# Altium integrated library MDAP.IntLib: 18 symbols
Pins are listed as number, name and electrical type; pins without a type are passive.

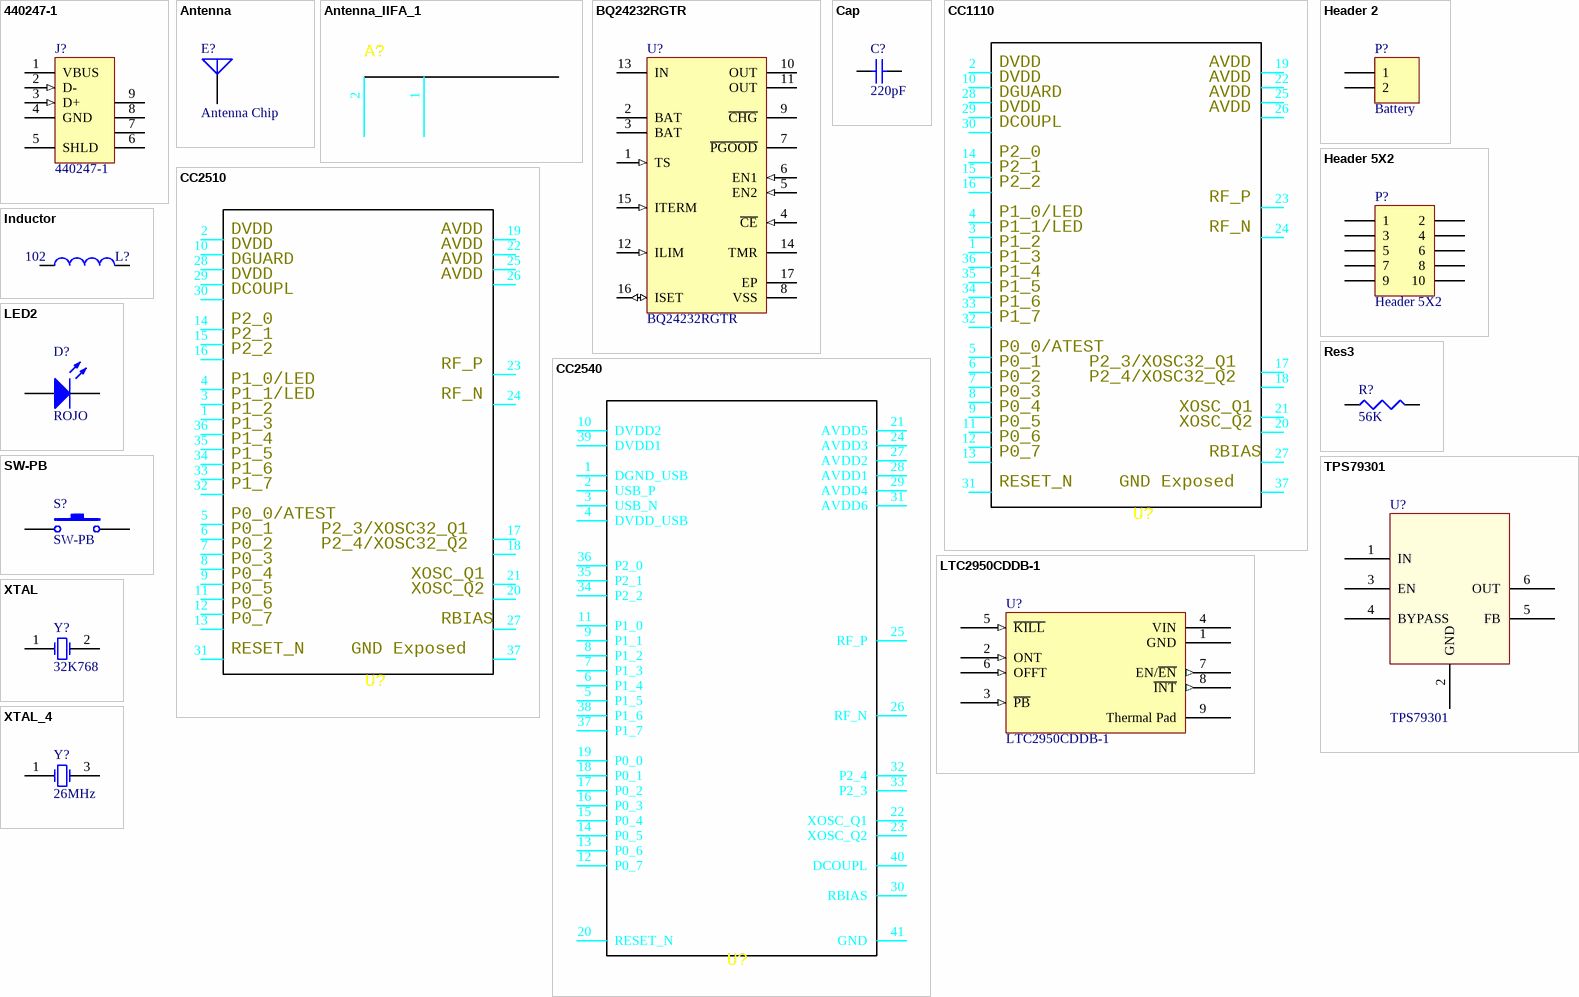
[diagram p0: symbols 440247-1 to XTAL_4]

## 440247-1
designator J?
USB 2.0, Right Angle, SMT, B Type, Receptacle, 5 Position, Black; Manufacturer: Smart Prototyping; SP: SP-C10418; Published: 15-Jul-2004; PackageReference: 440247; Publisher: Altium Limited; Order N: SP-C10418
signal-integrity model USB2.0
footprint USB_C10418 (Micro USB 5C, TYPE B)
pins: 1 VBUS (power) "Power", 2 D- (in) "-DATA", 3 D+ (in) "+DATA", 4 GND (power) "Ground", 5 SHLD "Shield", 6 SHLD "Shield", 7 SHLD "Shield", 8 SHLD "Shield", 9 SHLD "Shield"

## Antenna
designator E?, comment Antenna Chip
Generic Antenna; Manufacturer: FARNELL; RS: N.E.; PN: 0868AT43A0020E; Order N: 1885493; Published: 24-Mar-1999; LatestRevisionDate: 17-Jul-2002; LatestRevisionNote: Re-released for DXP Platform.; PackageReference: PIN1; Publisher: Altium Limited; FARNELL: 1885493
footprint PIN1 (Generic Antenna; 1 Lead)
footprint Johanson_0868AT43A0020
pins: 1 A

## Antenna_IIFA_1
designator A?  (value not drawn)
Antenna single ended IIFA, 2450 MHz
footprint antenna_IIFA_1
footprint antenna_IIFA_1
pins: 1, 2

## BQ24232RGTR
designator U?
USB Friendly 0.5 A Li+ Charger with Dynamic Power Management, 10.5 V OVP, 4.3 V, -40 to 85 degC, 16-pin QFN (RGT), Green (RoHS & no Sb/Br); Manufacturer: FARNELL; RS: N.E.; PN: BQ24232RGTT; Order N: 2383064; PackageReference: RGT16-1700X1700TP; PackageDescription: 16-Pin Plastic Quad Flat No-Lead, 3 x 3 mm Body, 0.5 mm Pitch, 1.7 x 1.7 mm Exposed Pad; FARNELL: 2383064
footprint RGT16-1700X1700TP (QFN, 16-Leads, Body 3x3mm, Pitch 0.5mm, Thermal Pad 1.7x1.7mm, TI Recommended)
footprint RGT16-1700X1700TP_SP (QFN, 16-Leads, Body 3x3mm, Pitch 0.5mm, Thermal Pad 1.7x1.7mm, TI Recommended)
pins: 1 TS (in) "External NTC Thermistor Input. Connect the TS input to the NTC thermistor in the battery pack. TS monitors a 10-k ohm NTC thermistor. For applications that do not utilize the TS function, connect a 10-k ohm fixed resistor (See Datasheet)", 2 BAT (power) "Charger Power Stage Output and Battery Voltage Sense Input. Connect BAT to the positive terminal of the battery. Bypass BAT to VSS with a 4.7-uF to 47-uF ceramic capacitor.", 3 BAT (power) "Charger Power Stage Output and Battery Voltage Sense Input. Connect BAT to the positive terminal of the battery. Bypass BAT to VSS with a 4.7-uF to 47-uF ceramic capacitor.", 4 ~{CE} (in) "Charge Enable Active-Low Input. Connect C\E\ to a high logic level to place the battery charger in standby mode. In standby mode, OUT is active and battery supplement mode is still available. Connect C\E\ to a low logic (See Datasheet)", 5 EN2 (in) "Input Current Limit Configuration Inputs. Use EN2 control the maximum input current and enable USB compliance. See Table 2 for the description of the operation states. EN2 is internally pulled down with ~285 k ohm. Do not (See Datasheet)", 6 EN1 (in) "Input Current Limit Configuration Inputs. Use EN1 control the maximum input current and enable USB compliance. See Table 2 for the description of the operation states. EN1  is internally pulled down with ~285 k ohm. Do not (See Datasheet)", 7 ~{PGOOD} (hiz) "Open-drain Power Good Status Indication Output. P\G\O\O\D\ pulls to VSS when a valid input source is detected. P\G\O\O\D\ is high-impedance when the input power is not within specified limits. Connect P\G\O\O\D\ to the (See Datasheet)", 8 VSS (power) "Ground. Connect to the thermal pad and to the ground rail of the circuit.", 9 ~{CHG} (hiz) "Open-Drain Charging Status Indication Output. C\H\G\ pulls to VSS when the battery is charging. C\H\G\ is high impedance when charging is complete and when charger is disabled.", 10 OUT (power) "System Supply Output. OUT provides a regulated output when the input is below the OVP threshold and above the regulation voltage. When the input is out of the operation range, OUT is connected to VBAT. Connect OUT to the (See Datasheet)", 11 OUT (power) "System Supply Output. OUT provides a regulated output when the input is below the OVP threshold and above the regulation voltage. When the input is out of the operation range, OUT is connected to VBAT. Connect OUT to the (See Datasheet)", 12 ILIM (in) "Adjustable Current Limit Programming Input. Connect a 3.1-k ohm to 7.8-k ohm resistor from ILIM to VSS to program the maximum input current (EN2=1, EN1=0). The input current includes the system load and the battery charge (See Datasheet)", 13 IN (power) "Input Power Connection. Connect IN to the connected to external DC supply (AC adapter or USB port). The input operating range is 4.35 V to 6.6 V. The input can accept voltages up to 26 V without damage but operation is (See Datasheet)", 14 TMR "Timer Programming Input. TMR controls the precharge and fast-charge safety timers. Connect TMR to VSS to disable all safety timers. Connect a 18-k ohm to 72-k ohm resistor between TMR and VSS to program the timers a desired (See Datasheet)", 15 ITERM (in) "Termination Current Programming Input. Connect a 0-ohm to 15-k ohm resistor from ITERM to VSS to program the termination current. Leave ITERM unconnected to set the termination current to the internal default 10% threshold.", 16 ISET (io) "Fast-Charge Current Programming Input. Connect a 3-k ohm to 36-k ohm resistor from ISET to VSS to program the fast-charge current level. Charging is disabled if ISET is left unconnected. While charging, the voltage at ISET (See Datasheet)", 17 EP (power) "An internal electrical connection exists between the exposed thermal pad and the VSS pin of the device. The thermal pad must be connected to the same potential as the VSS pin on the printed-circuit board. Do not use the (See Datasheet)"

## Cap
designator C?  value 220pF  (hidden comment: Cap)
Capacitor; Manufacturer: FARNELL; RS: 624-2941; Order N: 2426879; Published: 8-Jun-2000; LatestRevisionDate: 17-Jul-2002; LatestRevisionNote: Re-released for DXP Platform.; PackageReference: RAD-0.3; Publisher: Altium Limited; PackageDescription: Radial Cap, Thru-Hole; 2 Leads; 0.3 in Pin Spacing; FARNELL: 2426879
simulation model CAP (Capacitor)
signal-integrity model Cap
footprint 0402 (Chip Capacitor; Body 1.0 x 0.5 mm (LxW typ))
footprint 0402 (REFLOW)
pins: 1, 2

## CC1110
designator U?  (value not drawn)
Single chip transceiver; Manufacturer: FARNELL; RS: 459-342; PN: CC1110F32RHHR; Order N: 2422916; FARNELL: 2422916
footprint QLP36_4_4 (Reflow)
footprint QLP36_4_4 (Reflow)
pins: 1, 2, 3, 4, 5, 6, 7, 8, 9, 10, 11, 12, 13, 14, 15, 16, 17, 18, 19, 20, 21, 22, 23, 24, 25, 26, 27, 28, 29, 30, 31, 32, 33, 34, 35, 36, 37
text: DVDD; AVDD; DGUARD; DCOUPL; P2_0; P2_1; P2_2; RF_P; P1_0/LED; P1_1/LED; RF_N; P1_2; P1_3; P1_4; P1_5; P1_6; P1_7; P0_0/ATEST; P0_1; P2_3/XOSC32_Q1; P0_2; P2_4/XOSC32_Q2; P0_3; P0_4; XOSC_Q1; P0_5; XOSC_Q2; P0_6; P0_7; RBIAS; RESET_N; GND Exposed

## CC2510
designator U?  (value not drawn)
Single chip transceiver; Manufacturer: FARNELL; RS: 459-540; PN: CC2510F16RSP; Order N: 1549254; FARNELL: 1549254
footprint QLP36_4_4 norteam silk (Reflow)
footprint QLP36_4_4 norteam silk (Reflow)
pins: 1, 2, 3, 4, 5, 6, 7, 8, 9, 10, 11, 12, 13, 14, 15, 16, 17, 18, 19, 20, 21, 22, 23, 24, 25, 26, 27, 28, 29, 30, 31, 32, 33, 34, 35, 36, 37
text: DVDD; AVDD; DGUARD; DCOUPL; P2_0; P2_1; P2_2; RF_P; P1_0/LED; P1_1/LED; RF_N; P1_2; P1_3; P1_4; P1_5; P1_6; P1_7; P0_0/ATEST; P0_1; P2_3/XOSC32_Q1; P0_2; P2_4/XOSC32_Q2; P0_3; P0_4; XOSC_Q1; P0_5; XOSC_Q2; P0_6; P0_7; RBIAS; RESET_N; GND Exposed

## CC2540
designator U?  (value not drawn)
Single chip BLE; Manufacturer: FARNELL; RS: 730-0534; PN: CC2540F256RHAT; Order N: 1862837RL; FARNELL: 1862837RL
footprint QFN40_RHA (DATASHEET)
footprint QFN40_RHA (DATASHEET)
pins: 1 DGND_USB, 2 USB_P, 3 USB_N, 4 DVDD_USB, 5 P1_5, 6 P1_4, 7 P1_3, 8 P1_2, 9 P1_1, 10 DVDD2, 11 P1_0, 12 P0_7, 13 P0_6, 14 P0_5, 15 P0_4, 16 P0_3, 17 P0_2, 18 P0_1, 19 P0_0, 20 RESET_N, 21 AVDD5, 22 XOSC_Q1, 23 XOSC_Q2, 24 AVDD3, 25 RF_P, 26 RF_N, 27 AVDD2, 28 AVDD1, 29 AVDD4, 30 RBIAS, 31 AVDD6, 32 P2_4, 33 P2_3, 34 P2_2, 35 P2_1, 36 P2_0, 37 P1_7, 38 P1_6, 39 DVDD1, 40 DCOUPL, 41 GND

## Header 2
designator P?, comment Battery
Header, 2-Pin; Manufacturer: FARNELL; Order N: 9979611; LatestRevisionDate: 17-Jul-2002; LatestRevisionNote: Re-released for DXP Platform.; Publisher: Altium Limited; FARNELL: 9979611
footprint HDR1X2 (Connector; Header; 2 Position)
signal-integrity model Connector
footprint MHDR1X2 (Connector; Header; 2 Position)
footprint MOLEX_5267-2 (Conector Molex serie 5267 2 pin, paso 2.54mm)
footprint MOLEX_5268-2 (Conector Molex serie 5267 2 pin, paso 2.54mm acodado)
pins: 1, 2

## Header 5X2
designator P?
Header, 5-Pin, Dual row; Manufacturer: Smart Prototyping; SP: SP-C12650; LatestRevisionDate: 17-Jul-2002; LatestRevisionNote: Re-released for DXP Platform.; Publisher: Altium Limited; Order N: SP-C12650
footprint HDR2X5 (Connector; Header; 5x2 Position)
signal-integrity model Connector
footprint stl21
pins: 1, 2, 3, 4, 5, 6, 7, 8, 9, 10

## Inductor
designator L?  value 102  (hidden comment: Inductor)
Manufacturer: FARNELL; Code_IEC: 1005; RS: 777-6861; Order N: 1669624; Published: 8-Jun-2000; LatestRevisionDate: 29-May-2009; LatestRevisionNote: IPC-7351 Footprint Added.; PackageReference: 0402-A; Publisher: Altium Limited; PackageDescription: Chip Inductor; Code_JEITA: 0402; FARNELL: 1669624
footprint 0402-A (Chip Inductor, Body 1.0x0.5mm, IPC High Density)
footprint INDC1608L (Chip Inductor, Body 1.6x0.8mm, IPC High Density)
footprint 2029 (Chip Inductor, Body 2.0x1.2mm, IPC High Density)
footprint 0603 (Chip Inductor, Body 0.6x0.3mm, IPC High Density)
footprint INDC3216 (Chip Inductor, Body 3.2x1.6mm, IPC High Density)
footprint INDC4532 (Chip Inductor, Body 4.5x3.2mm, IPC High Density)
simulation model INDUCTOR (Inductor)
signal-integrity model Inductor
pins: 1, 2

## LED2
designator D?, comment ROJO
Typical RED, GREEN, YELLOW, AMBER GaAs LED; Manufacturer: Smart Prototyping; SP: SP-C2286; FARNELL: 2099236; Value: Rojo; Order N: SP-C2286
footprint 3.2X1.6X1.1 (SMT LED; 2 Flat Leads)
simulation model LED2 (Diode)
footprint led_0805 (LED 0805)
pins: 1 A, 2 K

## LTC2950CDDB-1
designator U?
Push Button On/Off Controller; Manufacturer: FARNELL; Note: 1915; Order N: 1673537; Published: 30-May-2008; DatasheetVersion: Feb-2008; PackageVersion: Rev B, Sep-2005; PackageReference: DDB8; Publisher: Altium Limited; PackageDescription: 8-Pin Plastic DFN, 3 x 2 x 0.8 mm Body, 0.5 mm Pitch, No Pullback, Exposed Pad (DDB8); Code_JEDEC: MO-229-WECD-1; ComponentLink1Description: Manufacturer Link; ComponentLink1URL: http://www.linear.com/; ComponentLink2Description: Datasheet; ComponentLink2URL: http://www.linear.com/pc/downloadDocument.do?navId=H0,C1,C1003,C1144,C1783,P10330,D7377; FARNELL: 1673537; PN: LTC2950CDDB-1
footprint DDB8 (SON, 8-Leads, Body 3x2 mm, Pitch 0.5mm, Linear Recommended)
pins: 1 GND (power), 2 ONT (in), 3 ~{PB} (in), 4 VIN (power), 5 ~{KILL} (in), 6 OFFT (in), 7 EN/~{EN} (out), 8 ~{INT} (out), 9 Thermal Pad

## Res3
designator R?  value 56K  (hidden comment: Res3)
Resistor; Manufacturer: FARNELL; RS: N.E.; Order N: 2331750; Published: 8-Jun-2000; LatestRevisionDate: 29-May-2009; LatestRevisionNote: IPC-7351 Footprint Added.; PackageReference: J1-0603; Publisher: Altium Limited; PackageDescription: Chip Resistor; FARNELL: 2331750
footprint J1-0603 (Chip Resistor, Body 1.6x0.8mm, IPC High Density)
footprint 14-1210 (Chip Resistor, Body 3.2x2.5mm, IPC High Density)
footprint 12Z-2010 (Chip Resistor, Body 5.0x2.5mm, IPC High Density)
footprint RESC6332 (Chip Resistor, Body 6.3x3.2mm, IPC High Density)
simulation model RESISTOR (Resistor)
signal-integrity model Res
pins: 1, 2

## SW-PB
designator S?
Switch; Manufacturer: Smart Prototyping; SP: SP-C3682; Published: 24-Mar-1999; LatestRevisionDate: 17-Jul-2002; LatestRevisionNote: Re-released for DXP Platform.; PackageReference: SPST-2; Publisher: Altium Limited; PackageDescription: Switch; 2 Leads; Order N: SP-C3682
footprint SPST-2 (Switch; 2 Leads)
footprint mhdr1x2 (Connector; Header; 2 Position)
footprint puls_C3682 (Pulsador acodado TH 4.5x4.5x5mm)
pins: 1, 2

## TPS79301
designator U?
Manufacturer: FARNELL; RS: 661-4478; PN: TPS79301DBVR; Order N: 1460960; FARNELL: 1460960
footprint SOT26A-6M
pins: 1 IN, 2 GND, 3 EN, 4 BYPASS, 5 FB, 6 OUT

## XTAL
designator Y?, comment 32K768
Crystal Oscillator; Manufacturer: Smart Prototyping; SP: SP-C14473; Value: 32.768KHz; FARNELL: 2449398; Order N: SP-C14473
footprint R38 (Crystal, Thru-Hole; 2 Leads; Body 3.1 x 8.2 mm (Dia.xH))
simulation model XTAL (Spice Subcircuit)
footprint 3.2X2.7X1.1A (SM LED, Bi-Colour; 4 Flat Leads; Body 3.2 x 2.7 x 1.1 mm (LxWxH))
footprint xtal_3215 (Cristal 3.2*1.5*0.9mm)
pins: 1 OSC1, 2 OSC2

## XTAL_4
designator Y?, comment 26MHz
Crystal Oscillator; Manufacturer: Smart Prototyping; SP: SP-C23363; RS: *; FARNELL: 2101340; Value: 26MHz; Order N: SP-C23363
simulation model XTAL (Spice Subcircuit)
footprint xtal_3225 (Cristal 3.2*2.5*0.7)
pins: 1 OSC1, 3 OSC2